# Altium schematic symbol library F10wers_Schematics.SchLib: 33 symbols
Pins are listed as number, name and electrical type; pins without a type are passive.

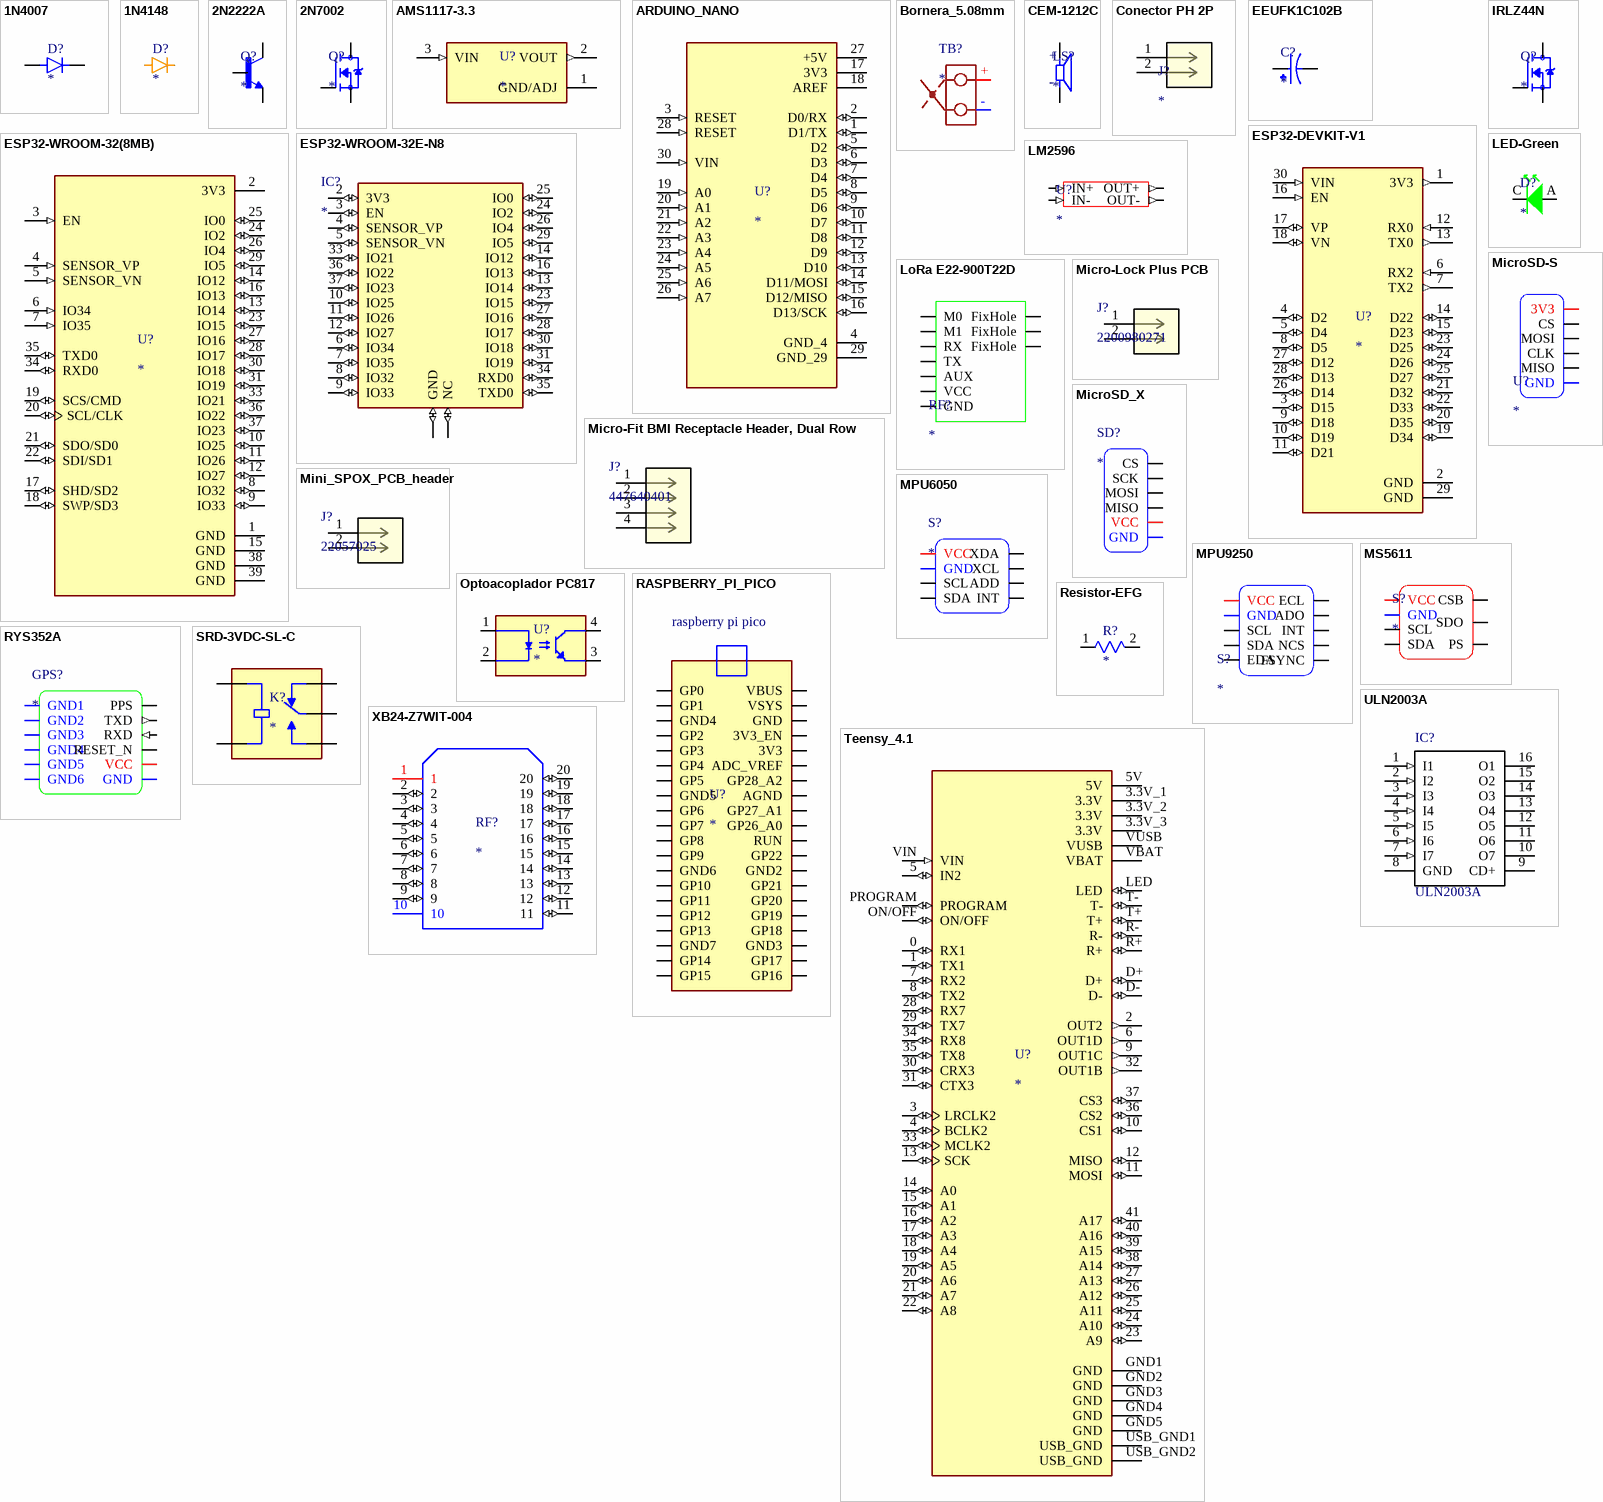
[diagram p0: symbols 1N4007 to XB24-Z7WIT-004]

## 1N4007
designator D?
Diode, DO-41, 1000V, 1A, 175Â°C; MF: Diotec Semiconductor; MP: 1N4007; SnapEDA_Link: https://www.snapeda.com/parts/1N4007/Diotec/view-part/?ref=snap; Package: DO-41 Diotec; Value: *; Check_prices: https://www.snapeda.com/parts/1N4007/Diotec/view-part/?ref=eda
footprint 1N4007 DO-41
pins: A, C

## 1N4148
designator D?
Diode Standard 75 V 300mA (DC) Through Hole DO-35; MF: SMC Diode Solutions; MP: 1N4148; SnapEDA_Link: https://www.snapeda.com/parts/1N4148/SMC/view-part/?ref=snap; Package: None; Value: *; Check_prices: https://www.snapeda.com/parts/1N4148/SMC/view-part/?ref=eda
footprint 1N4148
pins: A, C

## 2N2222A
designator Q?
NPN Silicon Transistor, Planar Switching, Emitter 40V, 2N222 Series | Solid State Manufacturing 2N2222A; MF: Solid State Inc.; SnapEDA_Link: https://www.snapeda.com/parts/2N2222A/Solid+State+Manufacturing/view-part/?ref=snap; Package: TO-18-3 Solid State Inc.; Value: *; MP: 2N2222A; Check_prices: https://www.snapeda.com/parts/2N2222A/Solid+State+Manufacturing/view-part/?ref=eda
footprint 2N2222A TO-18
pins: 1 B, 2 C, 3 E

## 2N7002
designator Q?
Mosfet Array 2 N-Channel (Dual) 60V 300mA 500mW Surface Mount PG-SOT363-6; MF: onsemi; MP: 2N7002; SnapEDA_Link: https://www.snapeda.com/parts/2N7002/Onsemi/view-part/?ref=snap; Package: SOT-23-3 ON Semiconductor; Value: *; Check_prices: https://www.snapeda.com/parts/2N7002/Onsemi/view-part/?ref=eda
footprint SOT23-3
pins: 1 G, 2 S, 3 D

## AMS1117-3.3
designator U?
Sot223/Pkg 1-Amp 3.3-Volt Low Drop Out Voltage Regulatator; MF: Advanced Monolithic Systems; MP: AMS1117-3.3; SnapEDA_Link: https://www.snapeda.com/parts/AMS1117-3.3/Advanced+Monolithic+Systems/view-part/?ref=snap; Package: SOT-223 Seeed Technology; Value: *; Check_prices: https://www.snapeda.com/parts/AMS1117-3.3/Advanced+Monolithic+Systems/view-part/?ref=eda
footprint AMS1117-3.3_SOT223
pins: 1 GND/ADJ (power), 2 VOUT (out), 3 VIN (in)

## ARDUINO_NANO
designator U?
Small, complete, and breadboard-friendly board based on the ATmega328 (Arduino Nano 3.x); SnapEDA_Link: https://www.snapeda.com/parts/Arduino%20Nano/Arduino/view-part/?ref=snap; Package: Non-Standard Arduino; Value: *; MF: Arduino; MP: Arduino Nano; Check_prices: https://www.snapeda.com/parts/Arduino%20Nano/Arduino/view-part/?ref=eda
footprint MODULE_ARDUINO_NANO
pins: 1 D1/TX (io), 2 D0/RX (io), 3 RESET (in), 4 GND_4 (power), 5 D2 (io), 6 D3 (io), 7 D4 (io), 8 D5 (io), 9 D6 (io), 10 D7 (io), 11 D8 (io), 12 D9 (io), 13 D10 (io), 14 D11/MOSI (io), 15 D12/MISO (io), 16 D13/SCK (io), 17 3V3 (power), 18 AREF (power), 19 A0 (in), 20 A1 (in), 21 A2 (in), 22 A3 (in), 23 A4 (in), 24 A5 (in), 25 A6 (in), 26 A7 (in), 27 +5V (power), 28 RESET (in), 29 GND_29 (power), 30 VIN (in)

## Bornera_5.08mm
designator TB?
footprint Bornera_5.08mm
pins: +, -

## CEM-1212C
designator LS?
12 mm, 12 V, 85 dB, Through Hole, Sealed, Driving Circuit, Magnetic Audio Transducer Buzzer; MF: Same Sky; MP: CEM-1212C; SnapEDA_Link: https://www.snapeda.com/parts/CEM-1212C/Same+Sky/view-part/?ref=snap; Package: None; Value: *; Check_prices: https://www.snapeda.com/parts/CEM-1212C/Same+Sky/view-part/?ref=eda
footprint CUI_CEM-1212C
pins: M, P
text: +; -

## Conector PH 2P
designator J?
footprint PH2.0mm Horizontal
pins: 1, 2

## EEUFK1C102B
designator C?
CAP ALUM 1000UF 20% 16V RAD TH; MF: Panasonic; MP: EEUFK1C102B; SnapEDA_Link: https://www.snapeda.com/parts/EEUFK1C102B/Panasonic/view-part/5795499/?ref=snap; Price: None; Availability: Not in stock; Value: *; Check_prices: https://www.snapeda.com/parts/EEUFK1C102B/Panasonic/view-part/5795499/?ref=eda; Package: RADIAL-2 Panasonic
footprint CAP-ELEC-1000uF-16V
pins: N, P

## ESP32-DEVKIT-V1
designator U?
Dual core, Wi-Fi: 2.4 GHz up to 150 Mbits/s,BLE (Bluetooth Low Energy) and legacy Bluetooth, 32 bits, Up to 240 MHz; MF: Do it; MP: ESP32-DEVKIT-V1; SnapEDA_Link: https://www.snapeda.com/parts/ESP32-DEVKIT-V1/Do+it/view-part/?ref=snap; Package: None; Value: *; Check_prices: https://www.snapeda.com/parts/ESP32-DEVKIT-V1/Do+it/view-part/?ref=eda
footprint MODULE_ESP32_DEVKIT_V1
pins: 1 3V3 (out), 2 GND (power), 3 D15 (io), 4 D2 (io), 5 D4 (io), 6 RX2 (in), 7 TX2 (out), 8 D5 (io), 9 D18 (io), 10 D19 (io), 11 D21 (io), 12 RX0 (in), 13 TX0 (out), 14 D22 (io), 15 D23 (io), 16 EN (in), 17 VP (io), 18 VN (io), 19 D34 (io), 20 D35 (io), 21 D32 (io), 22 D33 (io), 23 D25 (io), 24 D26 (io), 25 D27 (io), 26 D14 (io), 27 D12 (io), 28 D13 (io), 29 GND (power), 30 VIN (in)

## ESP32-WROOM-32(8MB)
designator U?
Bluetooth, WiFi 802.11b/g/n, Bluetooth v4.2 +EDR, Class 1, 2 and 3 Transceiver Module 2.4GHz ~ 2.5GHz Antenna Not Included, U.FL Surface Mount; MF: Espressif Systems; MP: ESP32-WROOM-32 (8MB); Value: *; SnapEDA_Link: https://www.snapeda.com/parts/ESP32-WROOM-32%20(8MB)/Espressif+Systems/view-part/?ref=snap; Availability: Not in stock; Price: None; Package: Module Espressif Systems; Check_prices: https://www.snapeda.com/parts/ESP32-WROOM-32%20(8MB)/Espressif+Systems/view-part/?ref=eda
footprint MODULE_ESP32-WROOM-32(8MB)
pins: 1 GND (power), 2 3V3 (power), 3 EN (in), 4 SENSOR_VP (in), 5 SENSOR_VN (in), 6 IO34 (in), 7 IO35 (in), 8 IO32 (io), 9 IO33 (io), 10 IO25 (io), 11 IO26 (io), 12 IO27 (io), 13 IO14 (io), 14 IO12 (io), 15 GND (power), 16 IO13 (io), 17 SHD/SD2 (io), 18 SWP/SD3 (io), 19 SCS/CMD (io), 20 SCL/CLK (io), 21 SDO/SD0 (io), 22 SDI/SD1 (io), 23 IO15 (io), 24 IO2 (io), 25 IO0 (io), 26 IO4 (io), 27 IO16 (io), 28 IO17 (io), 29 IO5 (io), 30 IO18 (io), 31 IO19 (io), 33 IO21 (io), 34 RXD0 (io), 35 TXD0 (io), 36 IO22 (io), 37 IO23 (io), 38 GND (power), 39 GND (power)

## ESP32-WROOM-32E-N8
designator IC?
Bluetooth, WiFi 802.11b/g/n, Bluetooth v4.2 +EDR, Class 1, 2 and 3 Transceiver Module 2.4GHz ~ 2.5GHz PCB Trace Surface Mount; MF: Espressif Systems; MP: ESP32-WROOM-32E-N8; SnapEDA_Link: https://www.snapeda.com/parts/ESP32-WROOM-32E-N8/Espressif+Systems/view-part/?ref=snap; Package: SMD-44 Espressif Systems; Value: *; Check_prices: https://www.snapeda.com/parts/ESP32-WROOM-32E-N8/Espressif+Systems/view-part/?ref=eda
footprint ESP32WROOM32EN8
pins: 1 GND (io), 2 3V3 (io), 3 EN (io), 4 SENSOR_VP (io), 5 SENSOR_VN (io), 6 IO34 (io), 7 IO35 (io), 8 IO32 (io), 9 IO33 (io), 10 IO25 (io), 11 IO26 (io), 12 IO27 (io), 13 IO14 (io), 14 IO12 (io), 15 GND (io), 16 IO13 (io), 17 NC (io), 18 NC (io), 19 NC (io), 20 NC (io), 21 NC (io), 22 NC (io), 23 IO15 (io), 24 IO2 (io), 25 IO0 (io), 26 IO4 (io), 27 IO16 (io), 28 IO17 (io), 29 IO5 (io), 30 IO18 (io), 31 IO19 (io), 32 NC (io), 33 IO21 (io), 34 RXD0 (io), 35 TXD0 (io), 36 IO22 (io), 37 IO23 (io), 38 GND (io), 39 GND (io), 40 GND (io), 41 GND (io), 42 GND (io), 43 GND (io), 44 GND (io), 45 GND (io), 46 GND (io), 47 GND (io)

## IRLZ44N
designator Q?
N-Channel 55 V 47A (Tc) 3.8W (Ta), 110W (Tc) Surface Mount D2PAK; MP: IRLZ44N; MF: Infineon / IR; Package: TO-220-3 Infineon / IR; Availability: Not in stock; Value: *; Check_prices: https://www.snapeda.com/parts/IRLZ44N/Infineon/view-part/?ref=eda; Price: None; SnapEDA_Link: https://www.snapeda.com/parts/IRLZ44N/Infineon/view-part/?ref=snap
footprint IRLZ44N-TO-220
footprint IRLZ44N-D2PACK
pins: 1 G, 2 D, 3 S

## LED-Green
designator D?
footprint Diode-LED
pins: A (power), C (power)

## LM2596
designator U?
footprint LM2596
pins: IN+ (in), IN- (in), OUT+ (out), OUT- (out)

## LoRa E22-900T22D
designator RF?
pins: AUX (io), FixHole (io), FixHole (io), FixHole (io), GND (io), M0 (io), M1 (io), RX (io), TX (io), VCC (io)

## Micro-Fit BMI Receptacle Header, Dual Row
designator J?, comment 447640401
Micro-Fit BMI Receptacle Header, Dual Row, Right-Angle, with Press-fit Plastic Pegs, 2.54Âµm Tin (Sn), 4 Circuits; Manufacturer_Name: Molex Connector Corporation; Copyright: Copyright (C) 2025 Ultra Librarian. All rights reserved.; Manufacturer_Part_Number: 447640401; RefDes: RefDes; Type: Type
footprint Micro-Fit BMI Receptacle Header, Dual Row
pins: 1, 2, 3, 4

## Micro-Lock Plus PCB
designator J?, comment 2200980271
1.25mm Pitch, Micro-Lock Plus PCB Header, Single Row, Right-Angle, Through Hole, Tin-Bismuth Plating, Positive Lock, 2 Circuits, Black; Manufacturer_Name: Molex Connector Corporation; Copyright: Copyright (C) 2026 Ultra Librarian. All rights reserved.; Manufacturer_Part_Number: 2200980271; RefDes: RefDes; Type: Type
footprint Micro-lock plus pcb
footprint Molex 3 pines Angulo Recto
pins: 1, 2

## MicroSD-S
designator U?
footprint MicroSD-S
pins: 3V3 (power), CLK (io), CS (io), GND (power), MISO (io), MOSI (io)

## MicroSD_X
designator SD?
footprint MicroSD_card
pins: CS (io), GND (power), MISO (io), MOSI (io), SCK (io), VCC (power)

## Mini_SPOX_PCB_header
designator J?, comment 22057025
2.50mm Pitch, Mini-SPOX PCB Header, Single Row, Right-Angle, Through Hole, Tin Plating, Friction Lock, 2 Circuits, Bag, 3.50mm PC Tail Length; Manufacturer_Name: Molex Connector Corporation; Copyright: Copyright (C) 2025 Ultra Librarian. All rights reserved.; Manufacturer_Part_Number: 22057025; RefDes: RefDes; Type: Type
footprint Mini_SPOX_PCB_header
pins: 1, 2

## MPU6050
designator S?
IMU (Unidad de Medición Inercial)  acelerómetro de 3 ejes y giroscopio de 3 ejes, ofreciendo 6DoF
footprint MPU6050
pins: ADD (io), GND (power), INT (io), SCL (io), SDA (io), VCC (power), XCL (io), XDA (io)

## MPU9250
designator S?
pins: ADO (io), ECL (io), EDA (io), FSYNC (io), GND (power), INT (io), NCS (io), SCL (io), SDA (io), VCC (power)

## MS5611
designator S?
barometric pressure sensor, Module: GY-63 / Chip: MS5611 / Operating Voltage: 3.3V - 5V DC
footprint MS5611
pins: CSB (io), GND (power), PS (io), SCL (io), SDA (io), SDO (io), VCC (power)

## Optoacoplador PC817
designator U?
Optoisolator Transistor Output - 1 Channel 4-DIP; MP: PC817X3NSZ1B; MF: Sharp Microelectronics; SnapEDA_Link: https://www.snapeda.com/parts/PC817X3NSZ1B/Sharp+Microelectronics/view-part/?ref=snap; Price: None; Purchase-URL: https://pricing.snapeda.com/search/part/PC817X3NSZ1B/?ref=eda; Check_prices: https://www.snapeda.com/parts/PC817X3NSZ1B/Sharp+Microelectronics/view-part/?ref=eda; Value: *; Availability: In Stock; Package: DIP-4 Sharp Microelectronics
footprint PC817 DIP-4
pins: 1 ANODE, 2 CATHODE, 3 EMITTER, 4 COLLECTOR

## RASPBERRY_PI_PICO
designator U?
Raspberry Pi Board, Arm Cortex-M0+; Core Architecture:Arm; Core Sub-Architecture:Cortex-M0+; Kit Contents:Raspberry Pi Pico Board; No. Of Bits:32Bit; Silicon Core Number:Rp2040; Silicon Manufacturer:Raspberry Pi |Raspberry-Pi RASPBERRY PI PICO; SnapEDA_Link: https://www.snapeda.com/parts/RASPBERRY%20PI%20PICO/Raspberry+Pi/view-part/?ref=snap; Package: None; Value: *; MF: Raspberry Pi; MP: RASPBERRY PI PICO; Check_prices: https://www.snapeda.com/parts/RASPBERRY%20PI%20PICO/Raspberry+Pi/view-part/?ref=eda
footprint RASPBERRY_PI_PICO
pins: 3V3 (io), 3V3_EN (io), ADC_VREF (io), AGND (io), GND (io), GND2 (io), GND3 (io), GND4 (io), GND5 (io), GND6 (io), GND7 (io), GP0 (io), GP1 (io), GP2 (io), GP3 (io), GP4 (io), GP5 (io), GP6 (io), GP7 (io), GP8 (io), GP9 (io), GP10 (io), GP11 (io), GP12 (io), GP13 (io), GP14 (io), GP15 (io), GP16 (io), GP17 (io), GP18 (io), GP19 (io), GP20 (io), GP21 (io), GP22 (io), GP26_A0 (io), GP27_A1 (io), GP28_A2 (io), RUN (io), VBUS (io), VSYS (io)
text: raspberry pi pico

## Resistor-EFG
designator R?
footprint Resistor-EFG
pins: 1 (power), 2 (power)

## RYS352A
designator GPS?
footprint RYS352A
pins: GND (power), GND1 (power), GND2 (power), GND3 (power), GND4 (power), GND5 (power), GND6 (power), PPS (io), RESET_N (io), RXD (in), TXD (out), VCC (power)

## SRD-3VDC-SL-C
designator K?
General Purpose Non Latching 12VDC SPDT Through Hole Relays RoHS; MF: Songle Relay; MP: SRD-12VDC-SL-C; SnapEDA_Link: https://www.snapeda.com/parts/SRD-12VDC-SL-C/Songle+Relay/view-part/?ref=snap; Package: NON STANDARD-5 Songle Relay; Value: *; Check_prices: https://www.snapeda.com/parts/SRD-12VDC-SL-C/Songle+Relay/view-part/?ref=eda
pins: COIL1, COIL2, COM, NC, NO

## Teensy_4.1
designator U?
RT1062 Teensy 4.1 series ARM® Cortex®-M7 MPU Embedded Evaluation Board; MF: SparkFun Electronics; MP: DEV-16771; SnapEDA_Link: https://www.snapeda.com/parts/DEV-16771/SparkFun+Electronics/view-part/?ref=snap; Package: None; Value: *; Check_prices: https://www.snapeda.com/parts/DEV-16771/SparkFun+Electronics/view-part/?ref=eda
footprint MODULE_DEV-16771
pins: 0 RX1 (io), 1 TX1 (io), 2 OUT2 (out), 3 LRCLK2 (io), 3.3V_1 3.3V (power), 3.3V_2 3.3V (power), 3.3V_3 3.3V (power), 4 BCLK2 (io), 5 IN2 (io), 5V (power), 6 OUT1D (out), 7 RX2 (io), 8 TX2 (io), 9 OUT1C (out), 10 CS1 (io), 11 MOSI (io), 12 MISO (io), 13 SCK (io), 14 A0 (io), 15 A1 (io), 16 A2 (io), 17 A3 (io), 18 A4 (io), 19 A5 (io), 20 A6 (io), 21 A7 (io), 22 A8 (io), 23 A9 (io), 24 A10 (io), 25 A11 (io), 26 A12 (io), 27 A13 (io), 28 RX7 (io), 29 TX7 (io), 30 CRX3 (io), 31 CTX3 (io), 32 OUT1B (out), 33 MCLK2 (io), 34 RX8 (io), 35 TX8 (io), 36 CS2 (io), 37 CS3 (io), 38 A14 (io), 39 A15 (io), 40 A16 (io), 41 A17 (io), D+ (io), D- (io), GND1 GND (power), GND2 GND (power), GND3 GND (power), GND4 GND (power), GND5 GND (power), LED (io), ON/OFF (io), PROGRAM (io), R+ (io), R- (io), T+ (io), T- (io), USB_GND1 USB_GND (power), USB_GND2 USB_GND (power), VBAT, VIN (in), VUSB

## ULN2003A
designator IC?
DARLINGTON ARRAY 7NPN, 2003, DIP16; Transistor Polarity:NPN; Collector Emitter Voltage V(br)ceo:50V; DC Collector Current:500mA; DC Current Gain hFE:1000; Operating Temperature Range:-20Â°C to +85Â°C; Transistor Case Style:DIP; No. of Pins:16; SVHC:No SVHC (20-Jun-2011); Base Number:2003; Current Ic Continuous a Max:500mA; Device Marking:ULN2003A; IC Generic Number:2003; Input Type:TTL, CMOS 5V; Input Voltage Max:5V; Logic Function Number:2003; Module Configuration:Seven; No. of Channels:7; No. of Transistors:7; Operating Temperature Max:85Â°C; Operating Temperature Min:-20Â°C; Output Current Max:500mA; Output Type:Open Collector; Output Voltage Max:50V; Package / Case:DIP; Termination Type:Through Hole; Transistor Type:Power Darlington; MF: STMicroelectronics; SnapEDA_Link: https://www.snapeda.com/parts/ULN2003A/STMicroelectronics/view-part/?ref=snap; Package: DIP-16 Sprague; MP: ULN2003A; Check_prices: https://www.snapeda.com/parts/ULN2003A/STMicroelectronics/view-part/?ref=eda; Value: *
footprint *DIL16
footprint *SO16
footprint *TSSOP16
pins: 1 I1 (in), 2 I2 (in), 3 I3 (in), 4 I4 (in), 5 I5 (in), 6 I6 (in), 7 I7 (in), 8 GND (power), 9 CD+, 10 O7 (oc), 11 O6 (oc), 12 O5 (oc), 13 O4 (oc), 14 O3 (oc), 15 O2 (oc), 16 O1 (oc)

## XB24-Z7WIT-004
designator RF?
Xbee Zb (Zigbee Pro Feature Set), 1mw, Wire Antenna, 250000; MP: XB24-Z7WIT-004; Package: None; Price: None; Value: *; Availability: Unavailable
footprint Xbee-S
pins: 1 (power), 2 (io), 3 (io), 4 (io), 5 (io), 6 (io), 7 (io), 8 (io), 9 (io), 10 (power), 11 (io), 12 (io), 13 (io), 14 (io), 15 (io), 16 (io), 17 (io), 18 (io), 19 (io), 20 (io)